# Altium footprint library 002-H-01 SLS to CAN.PcbLib: 25 footprints (part 1 of 2)
Each footprint in its own frame and in the unit in brackets; x right, y up, seen from the top. Pads: shape width x height; smd on the part's side, far side on the other; paste and mask are expansions set on the pad; w line width, h text height; cw(c..) or ccw(c..) is an arc to the next point about the centre after c.
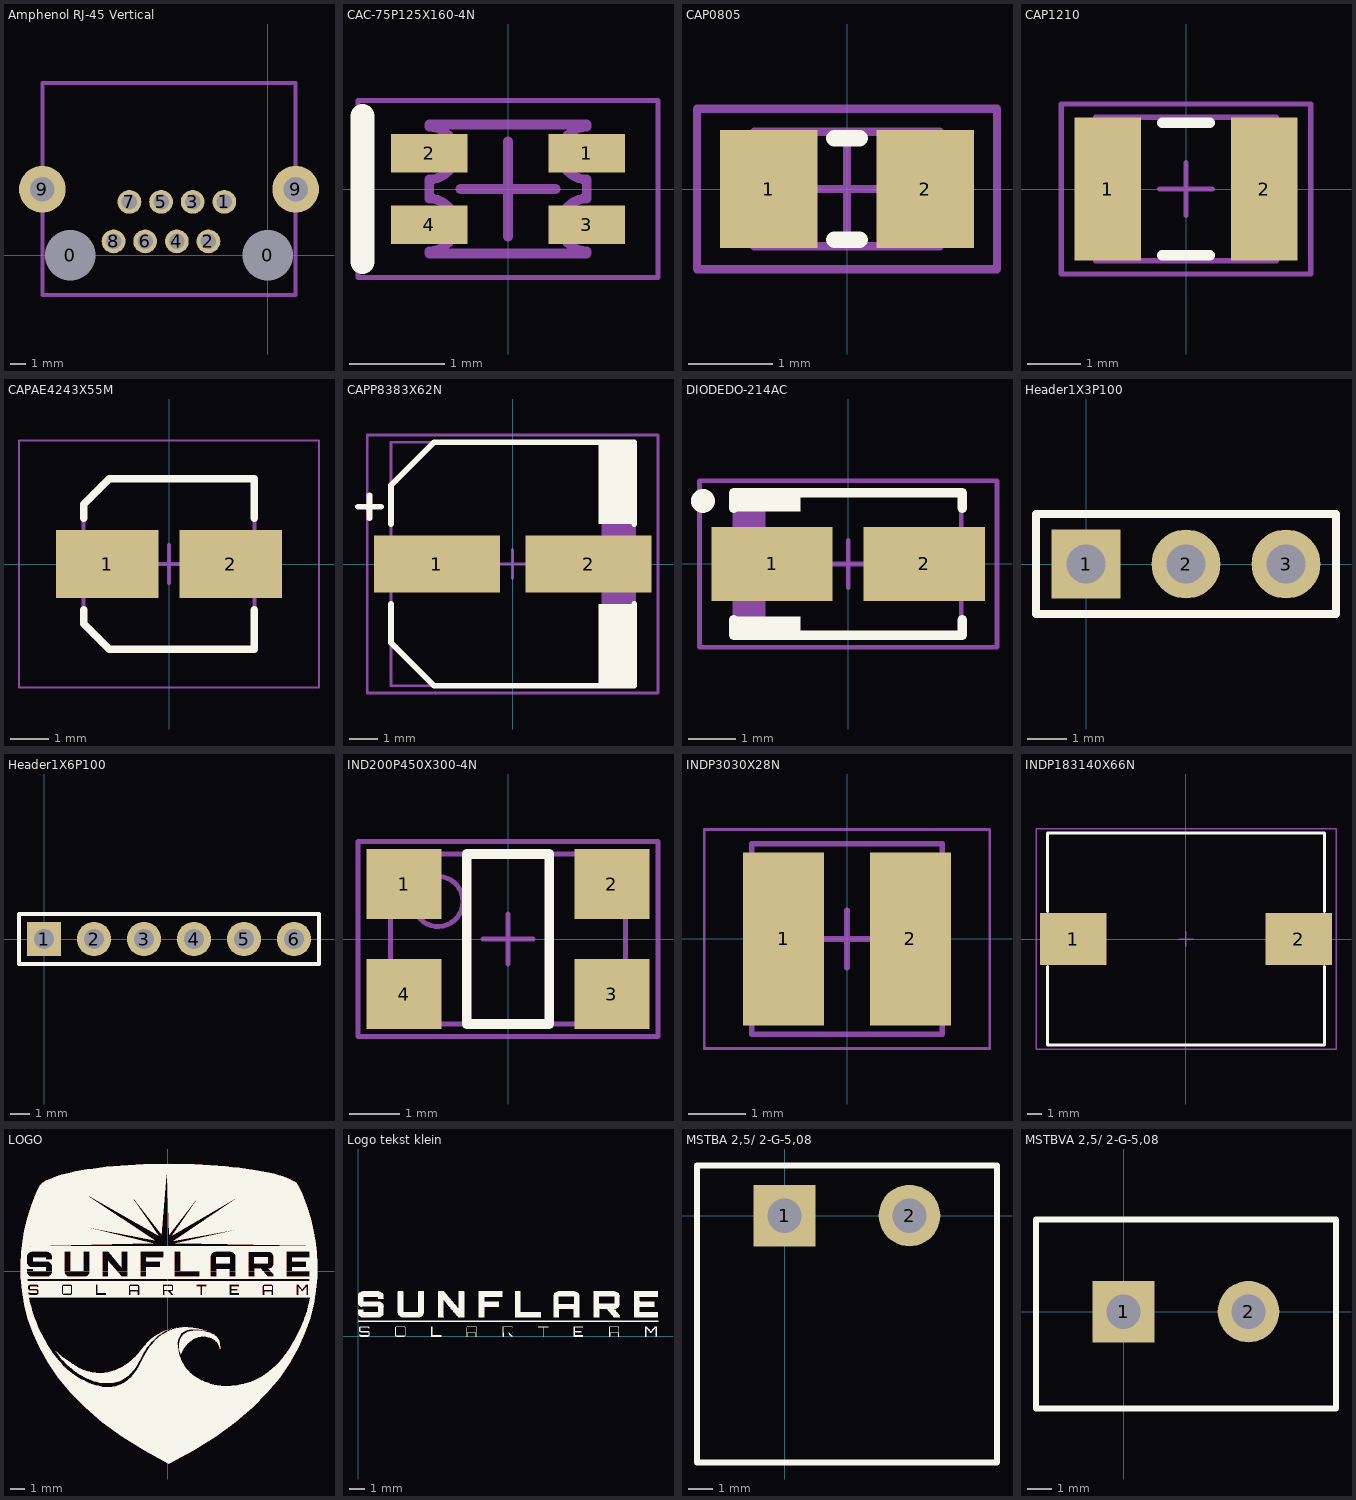
[diagram p0: the footprints below, top view; thin cyan lines are the x and y axes]

## Amphenol RJ-45 Vertical [mm] "MODULAR, JACK, THT, R/A, RJ45, 8P8C, Vertical"
pads (12):
  round 1.524 hole 3.25 unplated: 0(-12.7,0) 0(0,0)
  round 1.524 hole 1: 1(-2.8,3.43) 2(-3.82,0.89) 3(-4.83,3.43) 4(-5.85,0.89) 5(-6.86,3.43) 6(-7.88,0.89) 7(-8.89,3.43) 8(-9.91,0.89)
  round 3 hole 1.57: 9(-14.48,4.24) 9(1.78,4.24)
Mechanical 15:
  lines w0.254: -14.48,-2.54 -14.48,11.05 1.78,11.05 1.78,-2.54 -14.48,-2.54
3D body: height 15.88, standoff 0, extent -14.48,-2.54 1.78,11.049

## CAC-75P125X160-4N [mm] "Chip Array, Concave, 4-Leads, Pitch 0,75mm,  Body 1,25x1,60mm,  IPC Medium Density"
height 0.65
pads (4):
  rect 0.8x0.4 smd: 1(0.825,0.375) 2(-0.825,0.375) 3(0.825,-0.375) 4(-0.825,-0.375)
Top Overlay:
  lines w0.254: -1.524,-0.762 -1.524,0.762
Assembly Top:
  lines w0.1: -0.825,-0.675 0.825,-0.675 0.825,-0.65 cw(c0.825,-0.375) 0.825,-0.1 0.825,0.1 cw(c0.825,0.375) 0.825,0.65 0.825,0.675 -0.825,0.675 -0.825,0.65 cw(c-0.825,0.375) -0.825,0.1 -0.825,-0.1 cw(c-0.825,-0.375) -0.825,-0.65 -0.825,-0.675
Courtyard Top:
  lines w0.05: -1.57,-0.925 1.57,-0.925 1.57,0.925 -1.57,0.925 -1.57,-0.925
  lines w0.1: -0.5,0 0.5,0 ; 0,-0.5 0,0.5
3D body "APTB1612.STEP": height 0.64, standoff -0.01, extent -0.8,-0.625 0.8,0.625

## CAP0805 [mm] "Chip Capacitor, 2-Leads, Body 2.0x1.3mm, IPC Medium Density"
height 0.7
pads (2):
  rect 1.15x1.4 smd: 1(-0.925,0) 2(0.925,0)
Top Overlay:
  lines w0.2: -0.15,-0.6 0.15,-0.6 ; -0.15,0.6 0.15,0.6
Mechanical 13:
  lines w0.1: -1.1,-0.675 -1.1,0.675 1.1,0.675 1.1,-0.675 -1.1,-0.675
Mechanical 15:
  lines w0.1: -0.5,0 0.5,0 ; 0,-0.5 0,0.5 ; -1.775,-0.95 -1.775,0.95 1.775,0.95 1.775,-0.95 -1.775,-0.95
3D body: height 0.7, standoff 0, extent -1.1,-0.675 1.1,0.675
3D body "CAP_0805.step": height 0.95, standoff 0, extent -1,-0.6 1,0.6

## CAP1210 [mm] "Chip Capacitor, 2-Leads, Body 3.2x2.5mm, IPC Medium Density"
height 0.7
pads (2):
  rect 1.25x2.7 smd: 1(-1.475,0) 2(1.475,0)
Top Overlay:
  lines w0.2: -0.45,-1.25 0.45,-1.25 ; -0.45,1.25 0.45,1.25
Mechanical 13:
  lines w0.1: -1.7,-1.35 -1.7,1.35 1.7,1.35 1.7,-1.35 -1.7,-1.35
Mechanical 15:
  lines w0.1: -0.5,0 0.5,0 ; 0,-0.5 0,0.5 ; -2.35,-1.6 -2.35,1.6 2.35,1.6 2.35,-1.6 -2.35,-1.6
3D body: height 0.7, standoff 0, extent -1.7,-1.35 1.7,1.35
3D body "User Library-cap_1210_lowprofile.step": height 1.3, standoff 0, extent -1.6,-1.25 1.6,1.25

## CAPAE4243X55M [mm] "Aluminum Electrolytic Capacitor, Body 4,30x4,30x5,50mm, IPC Low Density"
height 5.5
pads (2):
  rect 2.7x1.8 smd: 1(-1.625,0) 2(1.625,0)
Top Overlay:
  lines w0.2: -2.25,-1.2 -2.25,-1.575 -1.575,-2.25 2.25,-2.25 2.25,-1.2 ; -2.25,1.2 -2.25,1.575 -1.575,2.25 2.25,2.25 2.25,1.2
Assembly Top:
  lines w0.1: -2.25,-1.575 -2.25,1.575 -1.575,2.25 2.25,2.25 2.25,-2.25 -1.575,-2.25 -2.25,-1.575
Courtyard Top:
  lines w0.05: -3.95,-3.25 3.95,-3.25 3.95,3.25 -3.95,3.25 -3.95,-3.25
  lines w0.1: -0.5,0 0.5,0 ; 0,-0.5 0,0.5
3D body: height 5.5, standoff 0, extent -2.25,-2.25 2.25,2.243
3D body: height 1.84, standoff 0, extent -2.25,-2.25 2.25,2.25

## CAPP8383X62N [mm] "Capacitor SMD, 2-Leads, Body 8.3x8.3mm, IPC Medium Density"
height 6.2
pads (2):
  rect 4.4x2 smd: 1(-2.65,0) 2(2.65,0)
Top Overlay:
  rectangle: 3,1.4 4.25,4.2
  rectangle: 3,-4.2 4.25,-1.4
  lines w0.2: -5.4,2 -4.6,2 ; -5,1.6 -5,2.4 ; -4.25,-1.4 -4.25,-2.75 -2.75,-4.25 4.25,-4.25 4.25,-1.4 ; -4.25,1.4 -4.25,2.75 -2.75,4.25 4.25,4.25 4.25,1.4
Mechanical 13:
  region: 4.25,4.25 3.107,4.25 3.107,-4.25 4.25,-4.25
  lines w0.1: -4.25,-4.25 4.25,-4.25 4.25,4.25 -4.25,4.25 -4.25,-4.25
Mechanical 15:
  lines w0.1: -0.5,0 0.5,0 ; 0,-0.5 0,0.5 ; -5.075,-4.5 5.075,-4.5 5.075,4.5 -5.075,4.5 -5.075,-4.5
3D body: height 6.2, standoff 0, extent -4.25,-4.25 4.25,4.25

## DIODEDO-214AC [mm] "Molded Diode, 2-Leads, Body 4.4x2.7mm, IPC Medium Density"
height 2.4
pads (2):
  rect 2.55x1.55 smd: 1(-1.6,0) 2(1.6,0)
Top Overlay:
  circle w0.25: c-3.05,1.325 r0.125
  rectangle: -2.4,-1.5 -1,-1.1
  rectangle: -2.4,1.1 -1,1.5
  lines w0.2: -2.4,-1.175 -2.4,-1.5 2.4,-1.5 2.4,-1.175 ; -2.4,1.175 -2.4,1.5 2.4,1.5 2.4,1.175
Mechanical 13:
  rectangle: -2.375,-1.475 -1.736,1.475
  lines w0.1: -2.375,-1.475 -2.375,1.475 2.375,1.475 2.375,-1.475 -2.375,-1.475
Mechanical 15:
  lines w0.1: -0.5,0 0.5,0 ; 0,-0.5 0,0.5 ; -3.125,-1.75 -3.125,1.75 3.125,1.75 3.125,-1.75 -3.125,-1.75
3D body: height 2.4, standoff 0, extent -2.375,-1.475 2.375,1.475
3D body "User Library-DO-214AC_SMA.step": height 2.15, standoff -0.05, extent -2.5,-1.35 2.5,1.35

## Header1X3P100 [mm] "Header 1X3, 100mil pitch"
pads (3):
  rect 1.75x1.75 hole 1: 1(0,0)
  round 1.75 hole 1: 2(2.54,0) 3(5.08,0)
Top Overlay:
  lines w0.2: -1.27,-1.27 -1.27,1.27 6.35,1.27 6.35,-1.27 -1.27,-1.27
3D body "User Library-1x3 TH Pitch 2_54mm.step": height 9.5, standoff -3.2, extent -1.27,-1.27 6.35,1.27

## Header1X6P100 [mm] "Header 1X6, 100mil pitch"
pads (6):
  rect 1.75x1.75 hole 1: 1(0,0)
  round 1.75 hole 1: 2(2.54,0) 3(5.08,0) 4(7.62,0) 5(10.16,0) 6(12.7,0)
Top Overlay:
  lines w0.2: -1.27,-1.27 13.97,-1.27 13.97,1.27 -1.27,1.27 -1.27,-1.27
3D body: height 9, standoff 0, extent -1.27,-1.27 13.97,1.27
3D body "User Library-Header_Male_6Pin.STEP": height 8.54, standoff -3, extent -1.27,-1.245 13.97,1.245

## IND200P450X300-4N [mm] "IND, 4-Leads, Body 3.4x4.7mm (max), Pitch 2.00mm, IPC Medium Density"
height 3
pads (4):
  rect 1.5x1.4 smd: 1(-2.075,1.1) 2(2.075,1.1) 3(2.075,-1.1) 4(-2.075,-1.1)
Top Overlay:
  lines w0.2: -0.825,-1.7 -0.825,1.7 0.825,1.7 0.825,-1.7 -0.825,-1.7
Mechanical 13:
  circle w0.1: c-1.4,0.75 r0.5
  lines w0.1: -2.35,-1.7 -2.35,1.7 2.35,1.7 2.35,-1.7 -2.35,-1.7
Mechanical 15:
  lines w0.1: -0.5,0 0.5,0 ; 0,-0.5 0,0.5 ; -3,-1.95 -3,1.95 3,1.95 3,-1.95 -3,-1.95
3D body: height 3, standoff 0, extent -2.35,-1.7 2.35,1.7

## INDP3030X28N [mm] "Precision Wire Wound Inductor, 2-Leads, Body 3,00x3,00mm, IPC Medium Density"
height 2.8
pads (2):
  rect 1.4x3 smd: 1(-1.1,0) 2(1.1,0)
Assembly Top:
  lines w0.1: -1.65,-1.65 -1.65,1.65 1.65,1.65 1.65,-1.65 -1.65,-1.65
Courtyard Top:
  lines w0.05: -2.475,-1.9 -2.475,1.9 2.475,1.9 2.475,-1.9 -2.475,-1.9
  lines w0.1: -0.5,0 0.5,0 ; 0,-0.5 0,0.5
3D body "User Library-SDR0302.STEP": height 3, standoff 0, extent -1.5,-1.492 1.5,1.492

## INDP183140X66N [mm] "Precision Wire Wound Inductor, 2-Leads, Body 18.3x14.0mm, IPC Medium Density"
height 6.6
pads (2):
  rect 4.5x3.5 smd: 1(-7.62,0) 2(7.62,0)
Top Overlay:
  lines w0.2: -9.35,-1.85 -9.35,-7.15 9.35,-7.15 9.35,-1.85 ; -9.35,1.85 -9.35,7.15 9.35,7.15 9.35,1.85
Mechanical 13:
  lines w0.1: -9.3,-7.15 9.3,-7.15 9.3,7.15 -9.3,7.15 -9.3,-7.15
Mechanical 15:
  lines w0.1: -0.5,0 0.5,0 ; 0,-0.5 0,0.5 ; -10.125,-7.45 10.125,-7.45 10.125,7.45 -10.125,7.45 -10.125,-7.45
3D body: height 6.6, standoff 0, extent -9.3,-7.15 9.3,7.15

## LOGO [mm]
Top Layer:
  region: 225 vertices and 0 holes, not listed, extent 0.775,-5.547 3.516,-3.983
  region: -6.52,-0.985 -6.518,-0.985 -6.516,-0.985 -6.514,-0.986 -6.512,-0.986 -6.51,-0.987 -6.508,-0.988 -6.506,-0.989 -6.504,-0.99 -6.502,-0.992 -6.501,-0.993 -6.499,-0.995 -6.497,-0.996 -6.496,-0.998 -6.495,-1 -6.494,-1.001 -6.493,-1.003 -6.492,-1.005 -6.491,-1.007 -6.49,-1.009 -6.49,-1.011 -6.489,-1.014 -6.489,-1.016 -6.489,-1.018 -6.489,-1.449 -6.489,-1.451 -6.489,-1.453 -6.49,-1.455 -6.49,-1.458 -6.491,-1.46 -6.492,-1.462 -6.493,-1.464 -6.494,-1.466 -6.495,-1.467 -6.496,-1.469 -6.497,-1.471 -6.499,-1.472 -6.501,-1.474 -6.502,-1.475 -6.504,-1.477 -6.506,-1.478 -6.508,-1.479 -6.51,-1.48 -6.512,-1.481 -6.514,-1.481 -6.516,-1.482 -6.518,-1.482 -6.52,-1.482 -6.523,-1.483 -6.953,-1.483 -6.955,-1.482 -6.958,-1.482 -6.96,-1.482 -6.962,-1.481 -6.964,-1.481 -6.966,-1.48 -6.968,-1.479 -6.97,-1.478 -6.972,-1.477 -6.974,-1.475 -6.975,-1.474 -6.977,-1.472 -6.978,-1.471 -6.98,-1.469 -6.981,-1.467 -6.982,-1.466 -6.983,-1.464 -6.984,-1.462 -6.985,-1.46 -6.986,-1.458 -6.986,-1.455 -6.987,-1.453 -6.987,-1.451 -6.987,-1.449 -6.987,-1.018 -6.987,-1.016 -6.987,-1.014 -6.986,-1.011 -6.986,-1.009 -6.985,-1.007 -6.984,-1.005 -6.983,-1.003 -6.982,-1.001 -6.981,-0.999 -6.98,-0.998 -6.978,-0.996 -6.977,-0.994 -6.975,-0.993 -6.974,-0.992 -6.972,-0.99 -6.97,-0.989 -6.968,-0.988 -6.966,-0.987 -6.964,-0.986 -6.962,-0.986 -6.96,-0.985 -6.958,-0.985 -6.955,-0.985 -6.953,-0.984 -6.523,-0.984
  region: -2.025,-0.985 -2.022,-0.985 -2.02,-0.985 -2.018,-0.986 -2.016,-0.986 -2.014,-0.987 -2.012,-0.988 -2.01,-0.989 -2.008,-0.99 -2.006,-0.992 -2.005,-0.993 -2.003,-0.995 -2.002,-0.996 -2,-0.998 -1.999,-1 -1.998,-1.001 -1.997,-1.003 -1.996,-1.005 -1.995,-1.007 -1.994,-1.009 -1.994,-1.011 -1.993,-1.014 -1.993,-1.016 -1.993,-1.018 -1.993,-1.247 -2.491,-1.247 -2.491,-1.018 -2.491,-1.016 -2.491,-1.014 -2.49,-1.011 -2.49,-1.009 -2.489,-1.007 -2.488,-1.005 -2.488,-1.003 -2.486,-1.001 -2.485,-1 -2.484,-0.998 -2.483,-0.996 -2.481,-0.994 -2.48,-0.993 -2.478,-0.992 -2.476,-0.99 -2.474,-0.989 -2.472,-0.988 -2.47,-0.987 -2.468,-0.986 -2.466,-0.986 -2.464,-0.985 -2.462,-0.985 -2.46,-0.985 -2.457,-0.984 -2.027,-0.984
  region: 6.935,-0.985 6.937,-0.985 6.939,-0.985 6.941,-0.986 6.943,-0.986 6.945,-0.987 6.947,-0.988 6.949,-0.989 6.951,-0.99 6.953,-0.992 6.955,-0.993 6.956,-0.994 6.958,-0.996 6.959,-0.998 6.96,-1 6.961,-1.001 6.962,-1.003 6.963,-1.005 6.964,-1.007 6.965,-1.009 6.965,-1.011 6.966,-1.014 6.966,-1.016 6.966,-1.018 6.966,-1.247 6.468,-1.247 6.468,-1.018 6.468,-1.016 6.468,-1.014 6.469,-1.011 6.469,-1.009 6.47,-1.007 6.471,-1.005 6.472,-1.003 6.473,-1.001 6.474,-0.999 6.475,-0.998 6.477,-0.996 6.478,-0.994 6.48,-0.993 6.481,-0.992 6.483,-0.99 6.485,-0.989 6.487,-0.988 6.489,-0.987 6.491,-0.986 6.493,-0.986 6.495,-0.985 6.497,-0.985 6.5,-0.985 6.502,-0.984 6.932,-0.984
  region: 0.248,-0.985 0.25,-0.986 0.252,-0.986 0.254,-0.987 0.256,-0.987 0.258,-0.988 0.26,-0.989 0.262,-0.99 0.264,-0.991 0.266,-0.992 0.267,-0.994 0.269,-0.995 0.27,-0.997 0.272,-0.999 0.273,-1 0.274,-1.002 0.275,-1.004 0.276,-1.006 0.277,-1.008 0.277,-1.01 0.278,-1.012 0.278,-1.015 0.278,-1.017 0.279,-1.019 0.279,-1.208 0.278,-1.211 0.278,-1.213 0.278,-1.215 0.277,-1.217 0.277,-1.219 0.276,-1.221 0.275,-1.223 0.274,-1.225 0.273,-1.227 0.272,-1.228 0.27,-1.23 0.269,-1.232 0.267,-1.233 0.266,-1.234 0.264,-1.236 0.262,-1.237 0.26,-1.238 0.259,-1.239 0.256,-1.239 0.254,-1.24 0.252,-1.24 0.25,-1.241 0.248,-1.241 0.246,-1.241 -0.185,-1.241 -0.187,-1.241 -0.189,-1.241 -0.192,-1.24 -0.194,-1.24 -0.196,-1.239 -0.198,-1.239 -0.2,-1.238 -0.202,-1.237 -0.204,-1.236 -0.205,-1.234 -0.207,-1.233 -0.209,-1.232 -0.21,-1.23 -0.211,-1.228 -0.213,-1.227 -0.214,-1.225 -0.215,-1.223 -0.216,-1.221 -0.217,-1.219 -0.217,-1.217 -0.218,-1.215 -0.218,-1.213 -0.218,-1.211 -0.219,-1.208 -0.219,-1.019 -0.218,-1.017 -0.218,-1.015 -0.218,-1.012 -0.217,-1.01 -0.217,-1.008 -0.216,-1.006 -0.215,-1.004 -0.214,-1.002 -0.213,-1 -0.211,-0.999 -0.21,-0.997 -0.209,-0.995 -0.207,-0.994 -0.205,-0.993 -0.203,-0.991 -0.202,-0.99 -0.2,-0.989 -0.198,-0.988 -0.196,-0.987 -0.194,-0.987 -0.192,-0.986 -0.189,-0.986 -0.187,-0.985 -0.185,-0.985 0.246,-0.985
  region: 6.723,0.553 5.796,0.553 5.796,0.94 6.723,0.94
  region: 4.182,0.542 3.255,0.542 3.255,0.94 4.182,0.94
  region: 132 vertices and 20 holes, not listed, extent -9.851,-12.916 10.036,7.197
Top Overlay:
  drawing of 8 lines, arcs and shapes, not listed
Top Solder:
  lines w0.254: -9.391,-0.578 9.485,-0.585 ; -9.18,1.729 9.241,1.729 ; -5.266,4.998 -0.344,2.079 ; -5.12,2.886 0.019,1.752 ; -3.215,3.728 -0.457,1.854 ; -2.261,4.812 -0.206,2.032 ; -0.18,1.887 -0.068,6.399 ; -0.134,4.199 -0.351,1.913 2.125,3.382 ; -0.055,3.995 0.07,1.854 ; -0.009,2.157 1.908,4.739 ; 4.42,2.774 -0.061,1.872 4.51,4.818

## Logo tekst klein [mm]
Top Overlay:
  drawing of 19 lines, arcs and shapes, not listed

## MSTBA 2,5/ 2-G-5,08 [mm] "MSTBA 2,5/ 2-G-5,08 1757242"
pads (2):
  rect 2.5x2.5 hole 1.4: 1(0,0)
  round 2.5 hole 1.4: 2(5.08,0)
Top Overlay:
  lines w0.254: -3.556,-10.033 8.636,-10.033 8.636,2.032 -3.556,2.032 -3.556,-10.033
3D body "pxc_1757242_06_MSTBA-2-5-2-G-5-08_3D (1).stp": height 8.6, standoff -3.5, extent -3.54,-10 8.62,2.002

## MSTBVA 2,5/ 2-G-5,08 [mm] "MSTBVA 2,5/ 2-G-5,08"
pads (2):
  rect 2.5x2.5 hole 1.4: 1(0,0)
  round 2.5 hole 1.4: 2(5.08,0)
Top Overlay:
  lines w0.254: -3.556,-3.937 8.636,-3.937 8.636,3.75 -3.556,3.75 -3.556,-3.937
3D body "pxc_1755736_04_MSTBVA-2-5-2-G-5-08_3D.stp": height 12, standoff -3.9, extent -3.54,-3.87 8.62,4.73